# EAGLE library part MIC4605-2YM (library MIC4605)
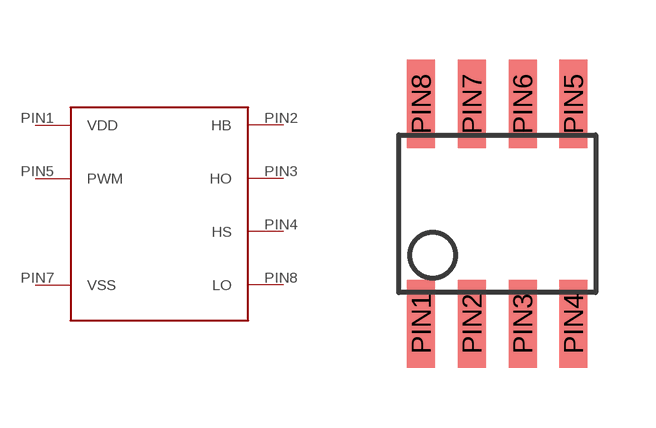
[diagram p1: symbol with the pads of 1YMSOIC; footprint 1YMSOIC]

Designator prefix -

## MIC4605-2YM  [1YMSOIC]
PIN1  VDD  pwr
PIN2  HB  in
PIN3  HO  out
PIN4  HS  in
PIN5  PWM  out
PIN7  VSS  pwr
PIN8  LO  out

## Footprint 1YMSOIC (pad centres in mm)
smd 0.7 x 2.2: PIN1 -1.905,-2.75; PIN2 -0.635,-2.75; PIN3 0.635,-2.75; PIN4 1.905,-2.75; PIN5 1.905,2.75; PIN6 0.635,2.75; PIN7 -0.635,2.75; PIN8 -1.905,2.75